# EAGLE library part LPC5411X (library Transputer)
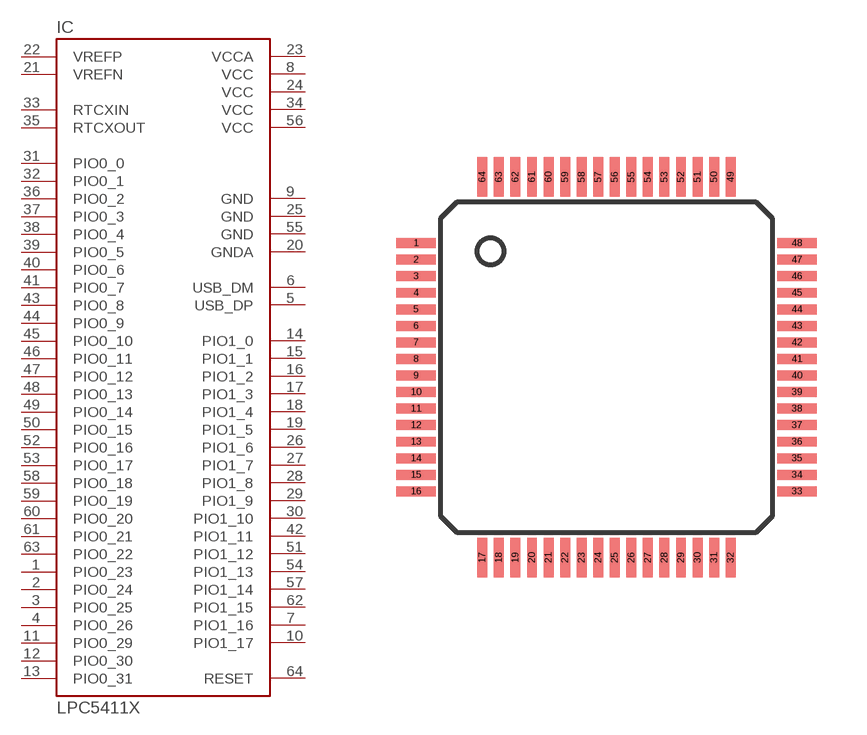
[diagram p9: symbol with the pads of LQPF64; footprint LQPF64]

Designator prefix IC

## LPC5411X  [LQPF64]
1  PIO0_23  hiz
2  PIO0_24  hiz
3  PIO0_25  hiz
4  PIO0_26  hiz
5  USB_DP  hiz
6  USB_DM  hiz
7  PIO1_16  hiz
8  VCC  pwr
9  GND  pwr
10  PIO1_17  hiz
11  PIO0_29  hiz
12  PIO0_30  hiz
13  PIO0_31  hiz
14  PIO1_0  hiz
15  PIO1_1  hiz
16  PIO1_2  hiz
17  PIO1_3  hiz
18  PIO1_4  hiz
19  PIO1_5  hiz
20  GNDA  pwr
21  VREFN  hiz
22  VREFP  hiz
23  VCCA  pwr
24  VCC  pwr
25  GND  pwr
26  PIO1_6  hiz
27  PIO1_7  hiz
28  PIO1_8  hiz
29  PIO1_9  hiz
30  PIO1_10  hiz
31  PIO0_0  hiz
32  PIO0_1  hiz
33  RTCXIN  hiz
34  VCC  pwr
35  RTCXOUT  hiz
36  PIO0_2  hiz
37  PIO0_3  hiz
38  PIO0_4  hiz
39  PIO0_5  hiz
40  PIO0_6  hiz
41  PIO0_7  hiz
42  PIO1_11  hiz
43  PIO0_8  hiz
44  PIO0_9  hiz
45  PIO0_10  hiz
46  PIO0_11  hiz
47  PIO0_12  hiz
48  PIO0_13  hiz
49  PIO0_14  hiz
50  PIO0_15  hiz
51  PIO1_12  hiz
52  PIO0_16  hiz
53  PIO0_17  hiz
54  PIO1_13  hiz
55  GND  pwr
56  VCC  pwr
57  PIO1_14  hiz
58  PIO0_18  hiz
59  PIO0_19  hiz
60  PIO0_20  hiz
61  PIO0_21  hiz
62  PIO1_15  hiz
63  PIO0_22  hiz
64  RESET  hiz

## Footprint LQPF64 (pad centres in mm)
smd 1.2 x 0.3: 1 -5.75,3.75; 2 -5.75,3.25; 3 -5.75,2.75; 4 -5.75,2.25; 5 -5.75,1.75; 6 -5.75,1.25; 7 -5.75,0.75; 8 -5.75,0.25; 9 -5.75,-0.25; 10 -5.75,-0.75; 11 -5.75,-1.25; 12 -5.75,-1.75; 13 -5.75,-2.25; 14 -5.75,-2.75; 15 -5.75,-3.25; 16 -5.75,-3.75; 33 5.75,-3.75; 34 5.75,-3.25; 35 5.75,-2.75; 36 5.75,-2.25; 37 5.75,-1.75; 38 5.75,-1.25; 39 5.75,-0.75; 40 5.75,-0.25; 41 5.75,0.25; 42 5.75,0.75; 43 5.75,1.25; 44 5.75,1.75; 45 5.75,2.25; 46 5.75,2.75; 47 5.75,3.25; 48 5.75,3.75
smd 0.3 x 1.2: 17 -3.75,-5.75; 18 -3.25,-5.75; 19 -2.75,-5.75; 20 -2.25,-5.75; 21 -1.75,-5.75; 22 -1.25,-5.75; 23 -0.75,-5.75; 24 -0.25,-5.75; 25 0.25,-5.75; 26 0.75,-5.75; 27 1.25,-5.75; 28 1.75,-5.75; 29 2.25,-5.75; 30 2.75,-5.75; 31 3.25,-5.75; 32 3.75,-5.75; 49 3.75,5.75; 50 3.25,5.75; 51 2.75,5.75; 52 2.25,5.75; 53 1.75,5.75; 54 1.25,5.75; 55 0.75,5.75; 56 0.25,5.75; 57 -0.25,5.75; 58 -0.75,5.75; 59 -1.25,5.75; 60 -1.75,5.75; 61 -2.25,5.75; 62 -2.75,5.75; 63 -3.25,5.75; 64 -3.75,5.75